# EAGLE library part X3815-10 (library saha-cpu)
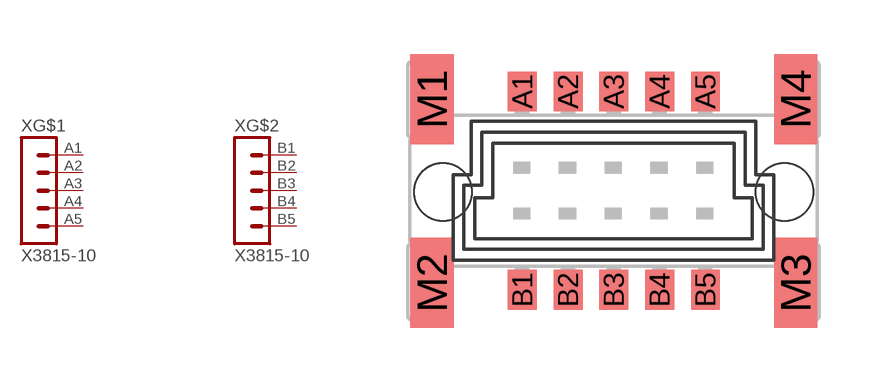
[diagram p3: symbol with the pads of AUX-IO_LIITTIMET_15110102601; footprint AUX-IO_LIITTIMET_15110102601]

Designator prefix X; gates G$1=AUX-IO_LIITTIMET_PIIKKIRIMA-5 G$2=AUX-IO_LIITTIMET_PIIKKIRIMA-5

## X3815-10  [AUX-IO_LIITTIMET_15110102601]
A1  G$1:1  pas
A2  G$1:2  pas
A3  G$1:3  pas
A4  G$1:4  pas
A5  G$1:5  pas
B1  G$2:1  pas
B2  G$2:2  pas
B3  G$2:3  pas
B4  G$2:4  pas
B5  G$2:5  pas

## Footprint AUX-IO_LIITTIMET_15110102601 (pad centres in mm)
Male Connector SMC-Q 12 contacts Type 7-13 - Low Profile Source: http://www.erni.com/DB/PDF-Drawing/SMC/154818.pdf
smd 0.8 x 1.1: A1 -2.54,2.765; A2 -1.27,2.765; A3 0,2.765; A4 1.27,2.765; A5 2.54,2.765; B1 -2.54,-2.74; B2 -1.27,-2.74; B3 0,-2.74; B4 1.27,-2.74; B5 2.54,-2.74
smd 1.2 x 2.5: M1 -5.045,2.55; M2 -5.045,-2.55; M3 5.045,-2.55; M4 5.045,2.55
hole 1.6 at -4.738,-0.022
hole 1.6 at 4.738,-0.022